# Altium footprint library ZVN4206ASTZ.PcbLib: 1 footprints
Each footprint in its own frame and in the unit in brackets; x right, y up, seen from the top. Pads: shape width x height; smd on the part's side, far side on the other; paste and mask are expansions set on the pad; w line width, h text height; cw(c..) or ccw(c..) is an arc to the next point about the centre after c.
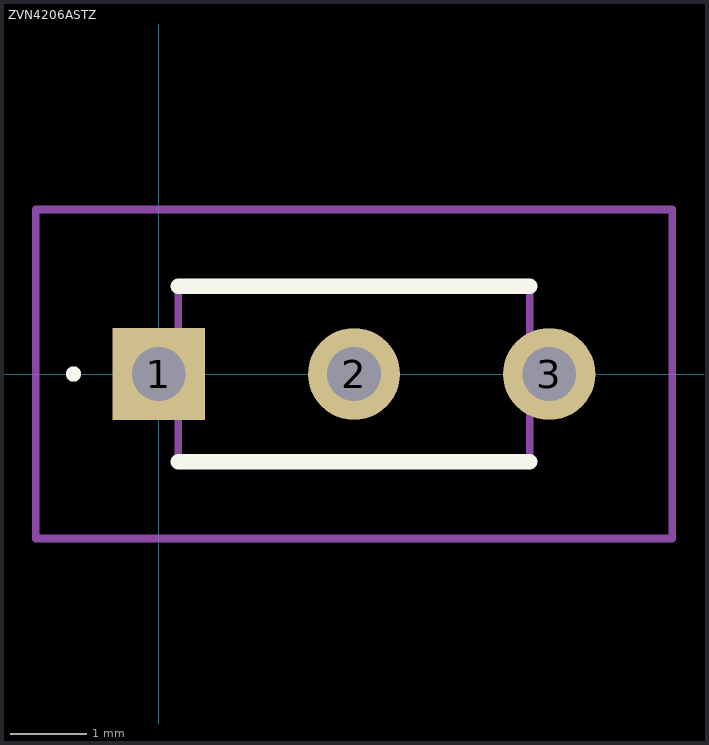
[diagram p0: the footprint, top view; thin cyan lines are the x and y axes]

## ZVN4206ASTZ [mm]
pads (3):
  rect 1.2x1.2 hole 0.7: 1(0,0)
  round 1.2 hole 0.7: 2(2.54,0) 3(5.08,0)
Top Overlay:
  lines w0.1: -1.16,0 cw(c-1.11,0) -1.06,0 ; -1.16,0 -1.16,0 ; -1.16,0 ccw(c-1.11,0) -1.06,0 ; -1.06,0 -1.06,0
  lines w0.2: 0.255,-1.14 4.825,-1.14 ; 0.255,1.14 4.825,1.14
Mechanical 15:
  lines w0.1: 0.255,-1.14 4.825,-1.14 4.825,1.14 0.255,1.14 0.255,-1.14
Mechanical 20:
  lines w0.1: -1.6,-2.14 6.68,-2.14 6.68,2.14 -1.6,2.14 -1.6,-2.14